# Altium schematic symbol library WE-PoE.SchLib: 97 symbols
Pins are listed as number, name and electrical type; pins without a type are passive.

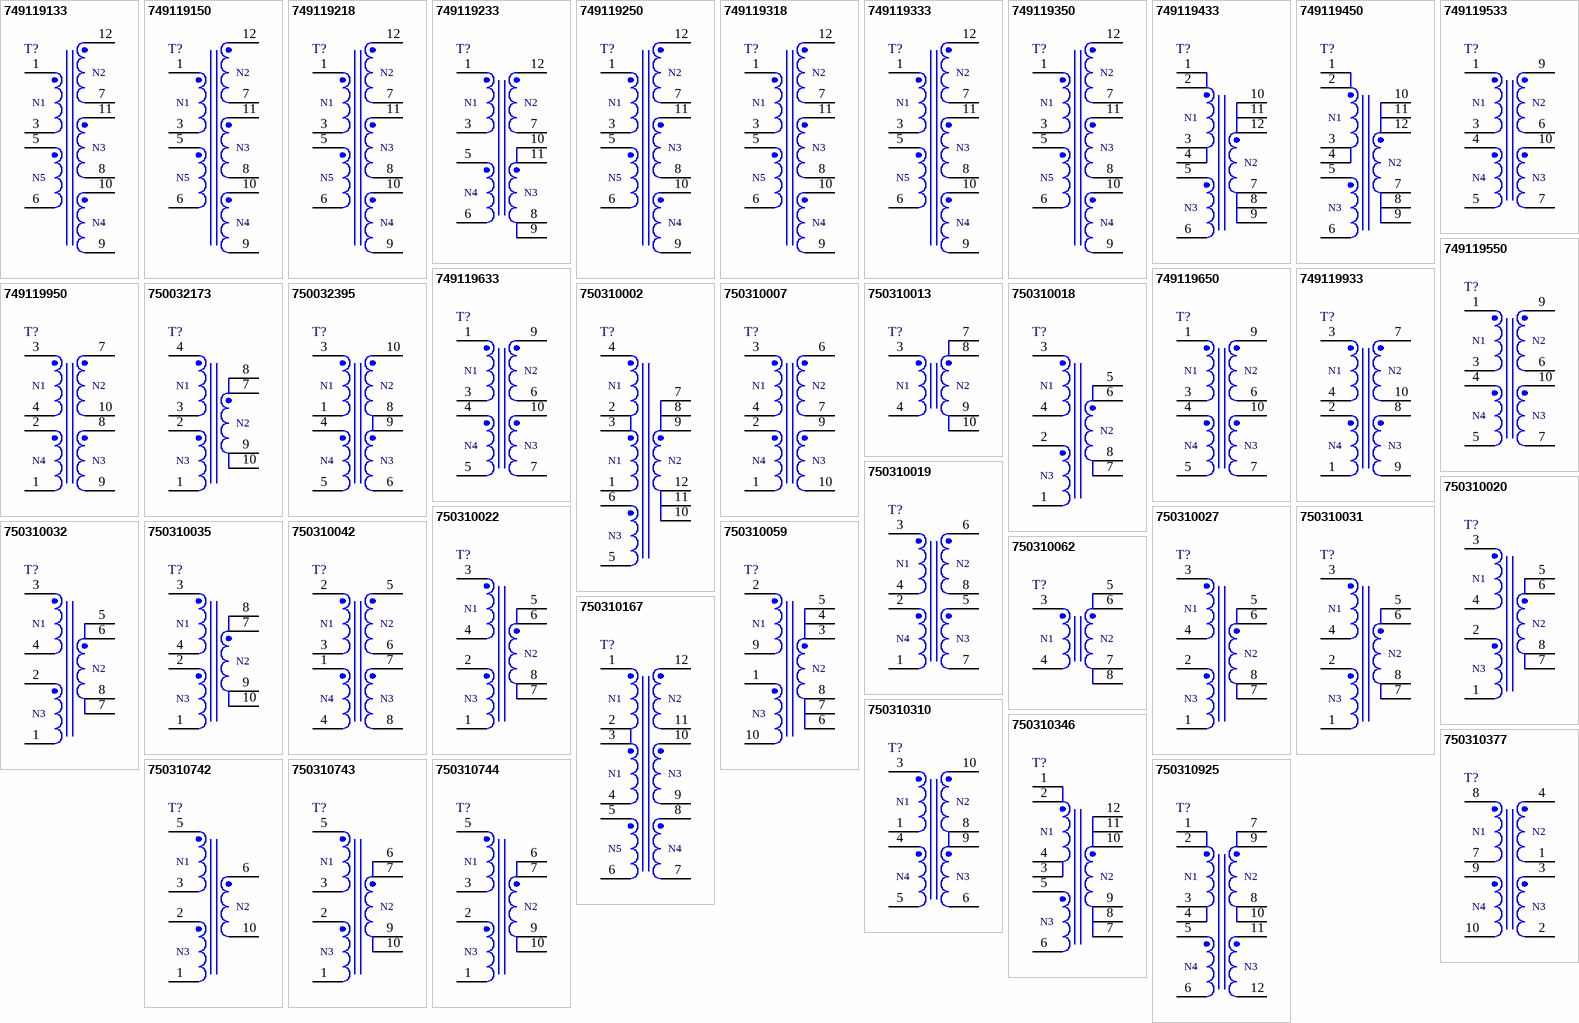
[diagram p0: symbols 749119133 to 750310925]

## 749119133
designator T?
pins: 1, 3, 5, 6, 7, 8, 9, 10, 11, 12
text: N2; N1; N3; N5; N4

## 749119150
designator T?
pins: 1, 3, 5, 6, 7, 8, 9, 10, 11, 12
text: N2; N1; N3; N5; N4

## 749119218
designator T?
pins: 1, 3, 5, 6, 7, 8, 9, 10, 11, 12
text: N2; N1; N3; N5; N4

## 749119233
designator T?
pins: 1, 3, 5, 6, 7, 8, 9, 10, 11, 12
text: N1; N2; N4; N3

## 749119250
designator T?
pins: 1, 3, 5, 6, 7, 8, 9, 10, 11, 12
text: N2; N1; N3; N5; N4

## 749119318
designator T?
pins: 1, 3, 5, 6, 7, 8, 9, 10, 11, 12
text: N2; N1; N3; N5; N4

## 749119333
designator T?
pins: 1, 3, 5, 6, 7, 8, 9, 10, 11, 12
text: N2; N1; N3; N5; N4

## 749119350
designator T?
pins: 1, 3, 5, 6, 7, 8, 9, 10, 11, 12
text: N2; N1; N3; N5; N4

## 749119433
designator T?
pins: 1, 2, 3, 4, 5, 6, 7, 8, 9, 10, 11, 12
text: N1; N2; N3

## 749119450
designator T?
pins: 1, 2, 3, 4, 5, 6, 7, 8, 9, 10, 11, 12
text: N1; N2; N3

## 749119533
designator T?
pins: 1, 3, 4, 5, 6, 7, 9, 10
text: N1; N2; N4; N3

## 749119550
designator T?
pins: 1, 3, 4, 5, 6, 7, 9, 10
text: N1; N2; N4; N3

## 749119633
designator T?
pins: 1, 3, 4, 5, 6, 7, 9, 10
text: N1; N2; N4; N3

## 749119650
designator T?
pins: 1, 3, 4, 5, 6, 7, 9, 10
text: N1; N2; N4; N3

## 749119933
designator T?
pins: 1, 2, 3, 4, 7, 8, 9, 10
text: N1; N2; N4; N3

## 749119950
designator T?
pins: 1, 2, 3, 4, 7, 8, 9, 10
text: N1; N2; N4; N3

## 750032173
designator T?
pins: 1, 2, 3, 4, 7, 8, 9, 10
text: N1; N2; N3

## 750032395
designator T?
pins: 1, 3, 4, 5, 6, 8, 9, 10
text: N1; N2; N4; N3

## 750310002
designator T?
pins: 1, 2, 3, 4, 5, 6, 7, 8, 9, 10, 11, 12
text: N1; N2; N3

## 750310007
designator T?
pins: 1, 2, 3, 4, 6, 7, 9, 10
text: N1; N2; N4; N3

## 750310013
designator T?
pins: 3, 4, 7, 8, 9, 10
text: N1; N2

## 750310018
designator T?
pins: 1, 2, 3, 4, 5, 6, 7, 8
text: N1; N2; N3

## 750310019
designator T?
pins: 1, 2, 3, 4, 5, 6, 7, 8
text: N1; N2; N4; N3

## 750310020
designator T?
pins: 1, 2, 3, 4, 5, 6, 7, 8
text: N1; N2; N3

## 750310022
designator T?
pins: 1, 2, 3, 4, 5, 6, 7, 8
text: N1; N2; N3

## 750310027
designator T?
pins: 1, 2, 3, 4, 5, 6, 7, 8
text: N1; N2; N3

## 750310031
designator T?
pins: 1, 2, 3, 4, 5, 6, 7, 8
text: N1; N2; N3

## 750310032
designator T?
pins: 1, 2, 3, 4, 5, 6, 7, 8
text: N1; N2; N3

## 750310035
designator T?
pins: 1, 2, 3, 4, 7, 8, 9, 10
text: N1; N2; N3

## 750310042
designator T?
pins: 1, 2, 3, 4, 5, 6, 7, 8
text: N1; N2; N4; N3

## 750310059
designator T?
pins: 1, 2, 3, 4, 5, 6, 7, 8, 9, 10
text: N1; N2; N3

## 750310062
designator T?
pins: 3, 4, 5, 6, 7, 8
text: N1; N2

## 750310167
designator T?
pins: 1, 2, 3, 4, 5, 6, 7, 8, 9, 10, 11, 12
text: N1; N2; N3; N5; N4

## 750310310
designator T?
pins: 1, 3, 4, 5, 6, 8, 9, 10
text: N1; N2; N4; N3

## 750310346
designator T?
pins: 1, 2, 3, 4, 5, 6, 7, 8, 9, 10, 11, 12
text: N1; N2; N3

## 750310377
designator T?
pins: 1, 2, 3, 4, 7, 8, 9, 10
text: N1; N2; N4; N3

## 750310742
designator T?
pins: 1, 2, 3, 5, 6, 10
text: N1; N2; N3

## 750310743
designator T?
pins: 1, 2, 3, 5, 6, 7, 9, 10
text: N1; N2; N3

## 750310744
designator T?
pins: 1, 2, 3, 5, 6, 7, 9, 10
text: N1; N2; N3

## 750310925
designator T?
pins: 1, 2, 3, 4, 5, 6, 7, 8, 9, 10, 11, 12
text: N1; N2; N4; N3

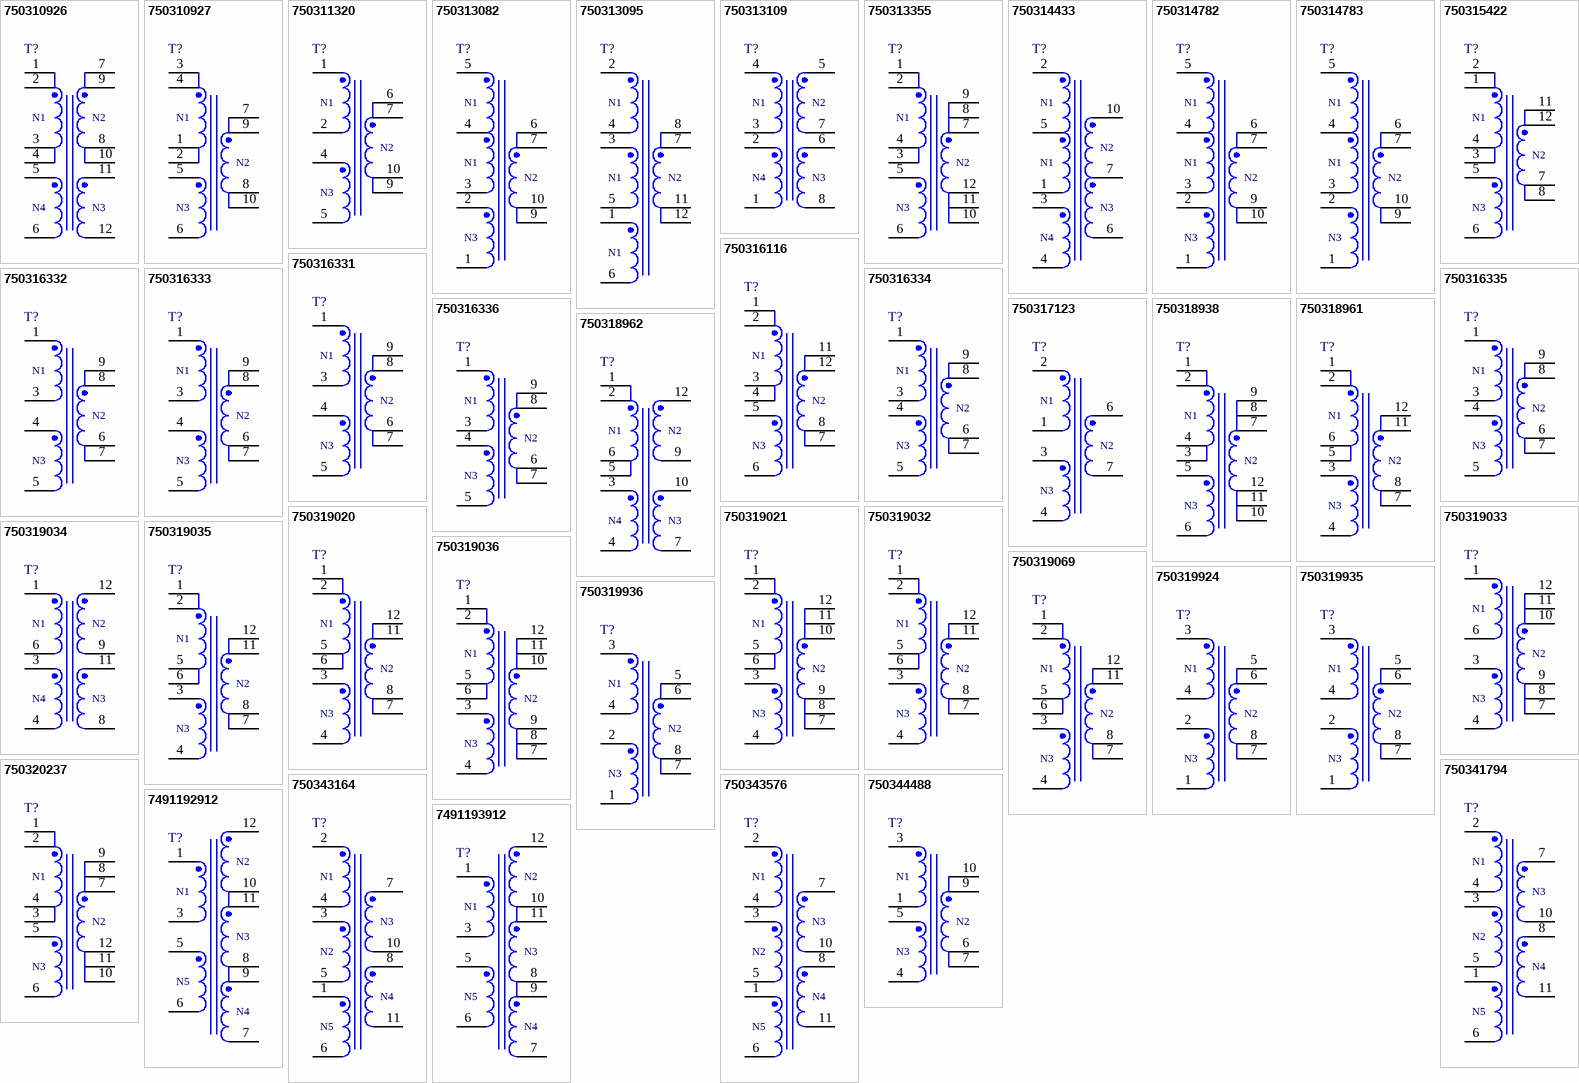
[diagram p1: symbols 750310926 to 7491193912]

## 750310926
designator T?
pins: 1, 2, 3, 4, 5, 6, 7, 8, 9, 10, 11, 12
text: N1; N2; N4; N3

## 750310927
designator T?
pins: 1, 2, 3, 4, 5, 6, 7, 8, 9, 10
text: N1; N2; N3

## 750311320
designator T?
pins: 1, 2, 4, 5, 6, 7, 9, 10
text: N1; N2; N3

## 750313082
designator T?
pins: 1, 2, 3, 4, 5, 6, 7, 9, 10
text: N1; N2; N3

## 750313095
designator T?
pins: 1, 2, 3, 4, 5, 6, 7, 8, 11, 12
text: N1; N2

## 750313109
designator T?
pins: 1, 2, 3, 4, 5, 6, 7, 8
text: N1; N2; N4; N3

## 750313355
designator T?
pins: 1, 2, 3, 4, 5, 6, 7, 8, 9, 10, 11, 12
text: N1; N2; N3

## 750314433
designator T?
pins: 1, 2, 3, 4, 5, 6, 7, 10
text: N1; N2; N3; N4

## 750314782
designator T?
pins: 1, 2, 3, 4, 5, 6, 7, 9, 10
text: N1; N2; N3

## 750314783
designator T?
pins: 1, 2, 3, 4, 5, 6, 7, 9, 10
text: N1; N2; N3

## 750315422
designator T?
pins: 1, 2, 3, 4, 5, 6, 7, 8, 11, 12
text: N1; N2; N3

## 750316116
designator T?
pins: 1, 2, 3, 4, 5, 6, 7, 8, 11, 12
text: N1; N2; N3

## 750316331
designator T?
pins: 1, 3, 4, 5, 6, 7, 8, 9
text: N1; N2; N3

## 750316332
designator T?
pins: 1, 3, 4, 5, 6, 7, 8, 9
text: N1; N2; N3

## 750316333
designator T?
pins: 1, 3, 4, 5, 6, 7, 8, 9
text: N1; N2; N3

## 750316334
designator T?
pins: 1, 3, 4, 5, 6, 7, 8, 9
text: N1; N2; N3

## 750316335
designator T?
pins: 1, 3, 4, 5, 6, 7, 8, 9
text: N1; N2; N3

## 750316336
designator T?
pins: 1, 3, 4, 5, 6, 7, 8, 9
text: N1; N2; N3

## 750317123
designator T?
pins: 1, 2, 3, 4, 6, 7
text: N1; N2; N3

## 750318938
designator T?
pins: 1, 2, 3, 4, 5, 6, 7, 8, 9, 10, 11, 12
text: N1; N2; N3

## 750318961
designator T?
pins: 1, 2, 3, 4, 5, 6, 7, 8, 11, 12
text: N1; N2; N3

## 750318962
designator T?
pins: 1, 2, 3, 4, 5, 6, 7, 9, 10, 12
text: N1; N2; N4; N3

## 750319020
designator T?
pins: 1, 2, 3, 4, 5, 6, 7, 8, 11, 12
text: N1; N2; N3

## 750319021
designator T?
pins: 1, 2, 3, 4, 5, 6, 7, 8, 9, 10, 11, 12
text: N1; N2; N3

## 750319032
designator T?
pins: 1, 2, 3, 4, 5, 6, 7, 8, 11, 12
text: N1; N2; N3

## 750319033
designator T?
pins: 1, 3, 4, 6, 7, 8, 9, 10, 11, 12
text: N1; N2; N3

## 750319034
designator T?
pins: 1, 3, 4, 6, 8, 9, 11, 12
text: N1; N2; N4; N3

## 750319035
designator T?
pins: 1, 2, 3, 4, 5, 6, 7, 8, 11, 12
text: N1; N2; N3

## 750319036
designator T?
pins: 1, 2, 3, 4, 5, 6, 7, 8, 9, 10, 11, 12
text: N1; N2; N3

## 750319069
designator T?
pins: 1, 2, 3, 4, 5, 6, 7, 8, 11, 12
text: N1; N2; N3

## 750319924
designator T?
pins: 1, 2, 3, 4, 5, 6, 7, 8
text: N1; N2; N3

## 750319935
designator T?
pins: 1, 2, 3, 4, 5, 6, 7, 8
text: N1; N2; N3

## 750319936
designator T?
pins: 1, 2, 3, 4, 5, 6, 7, 8
text: N1; N2; N3

## 750320237
designator T?
pins: 1, 2, 3, 4, 5, 6, 7, 8, 9, 10, 11, 12
text: N1; N2; N3

## 750341794
designator T?
pins: 1, 2, 3, 4, 5, 6, 7, 8, 10, 11
text: N1; N3; N2; N4; N5

## 750343164
designator T?
pins: 1, 2, 3, 4, 5, 6, 7, 8, 10, 11
text: N1; N3; N2; N4; N5

## 750343576
designator T?
pins: 1, 2, 3, 4, 5, 6, 7, 8, 10, 11
text: N1; N3; N2; N4; N5

## 750344488
designator T?
pins: 1, 3, 4, 5, 6, 7, 9, 10
text: N1; N2; N3

## 7491192912
designator T?
pins: 1, 3, 5, 6, 7, 8, 9, 10, 11, 12
text: N2; N1; N3; N5; N4

## 7491193912
designator T?
pins: 1, 3, 5, 6, 7, 8, 9, 10, 11, 12
text: N2; N1; N3; N5; N4

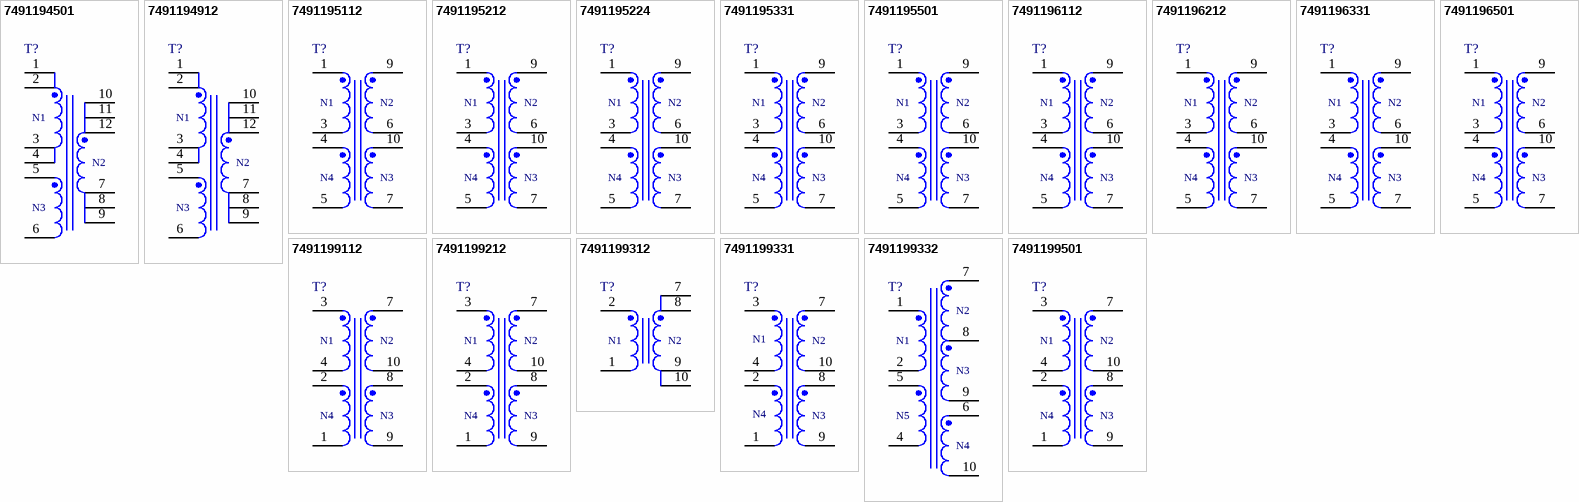
[diagram p2: symbols 7491194501 to 7491199501]

## 7491194501
designator T?
pins: 1, 2, 3, 4, 5, 6, 7, 8, 9, 10, 11, 12
text: N1; N2; N3

## 7491194912
designator T?
pins: 1, 2, 3, 4, 5, 6, 7, 8, 9, 10, 11, 12
text: N1; N2; N3

## 7491195112
designator T?
pins: 1, 3, 4, 5, 6, 7, 9, 10
text: N1; N2; N4; N3

## 7491195212
designator T?
pins: 1, 3, 4, 5, 6, 7, 9, 10
text: N1; N2; N4; N3

## 7491195224
designator T?
pins: 1, 3, 4, 5, 6, 7, 9, 10
text: N1; N2; N4; N3

## 7491195331
designator T?
pins: 1, 3, 4, 5, 6, 7, 9, 10
text: N1; N2; N4; N3

## 7491195501
designator T?
pins: 1, 3, 4, 5, 6, 7, 9, 10
text: N1; N2; N4; N3

## 7491196112
designator T?
pins: 1, 3, 4, 5, 6, 7, 9, 10
text: N1; N2; N4; N3

## 7491196212
designator T?
pins: 1, 3, 4, 5, 6, 7, 9, 10
text: N1; N2; N4; N3

## 7491196331
designator T?
pins: 1, 3, 4, 5, 6, 7, 9, 10
text: N1; N2; N4; N3

## 7491196501
designator T?
pins: 1, 3, 4, 5, 6, 7, 9, 10
text: N1; N2; N4; N3

## 7491199112
designator T?
pins: 1, 2, 3, 4, 7, 8, 9, 10
text: N1; N2; N4; N3

## 7491199212
designator T?
pins: 1, 2, 3, 4, 7, 8, 9, 10
text: N1; N2; N4; N3

## 7491199312
designator T?
pins: 1, 2, 7, 8, 9, 10
text: N1; N2

## 7491199331
designator T?
pins: 1, 2, 3, 4, 7, 8, 9, 10
text: N1; N2; N4; N3

## 7491199332
designator T?
pins: 1, 2, 4, 5, 6, 7, 8, 9, 10
text: N2; N1; N3; N5; N4

## 7491199501
designator T?
pins: 1, 2, 3, 4, 7, 8, 9, 10
text: N1; N2; N4; N3